# EAGLE library part MINI_USB (library Taylor)
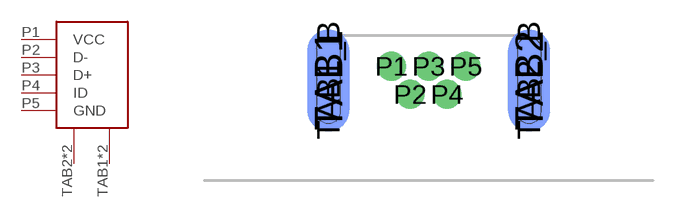
[diagram p31: symbol with the pads of USB_MINI_THRU; footprint USB_MINI_THRU]

Designator prefix -

## MINI_USB  [USB_MINI_THRU]
P1  VCC
P2  D-
P3  D+
P4  ID
P5  GND
TAB1  P$2
TAB1_B  P$2
TAB2  P$3
TAB2_B  P$3

## Footprint USB_MINI_THRU (pad centres in mm)
drill 0.711: P1 -1.575,0.597; P2 -0.787,-0.597; P3 0,0.597; P4 0.787,-0.597; P5 1.575,0.597
smd 1.778 x 4.318: TAB1 -4.255,0; TAB2 4.255,0
smd 1.778 x 4.318 bottom: TAB1_B -4.255,0; TAB2_B 4.255,0